# EAGLE library part MK20DN512 (library MK20DN512)
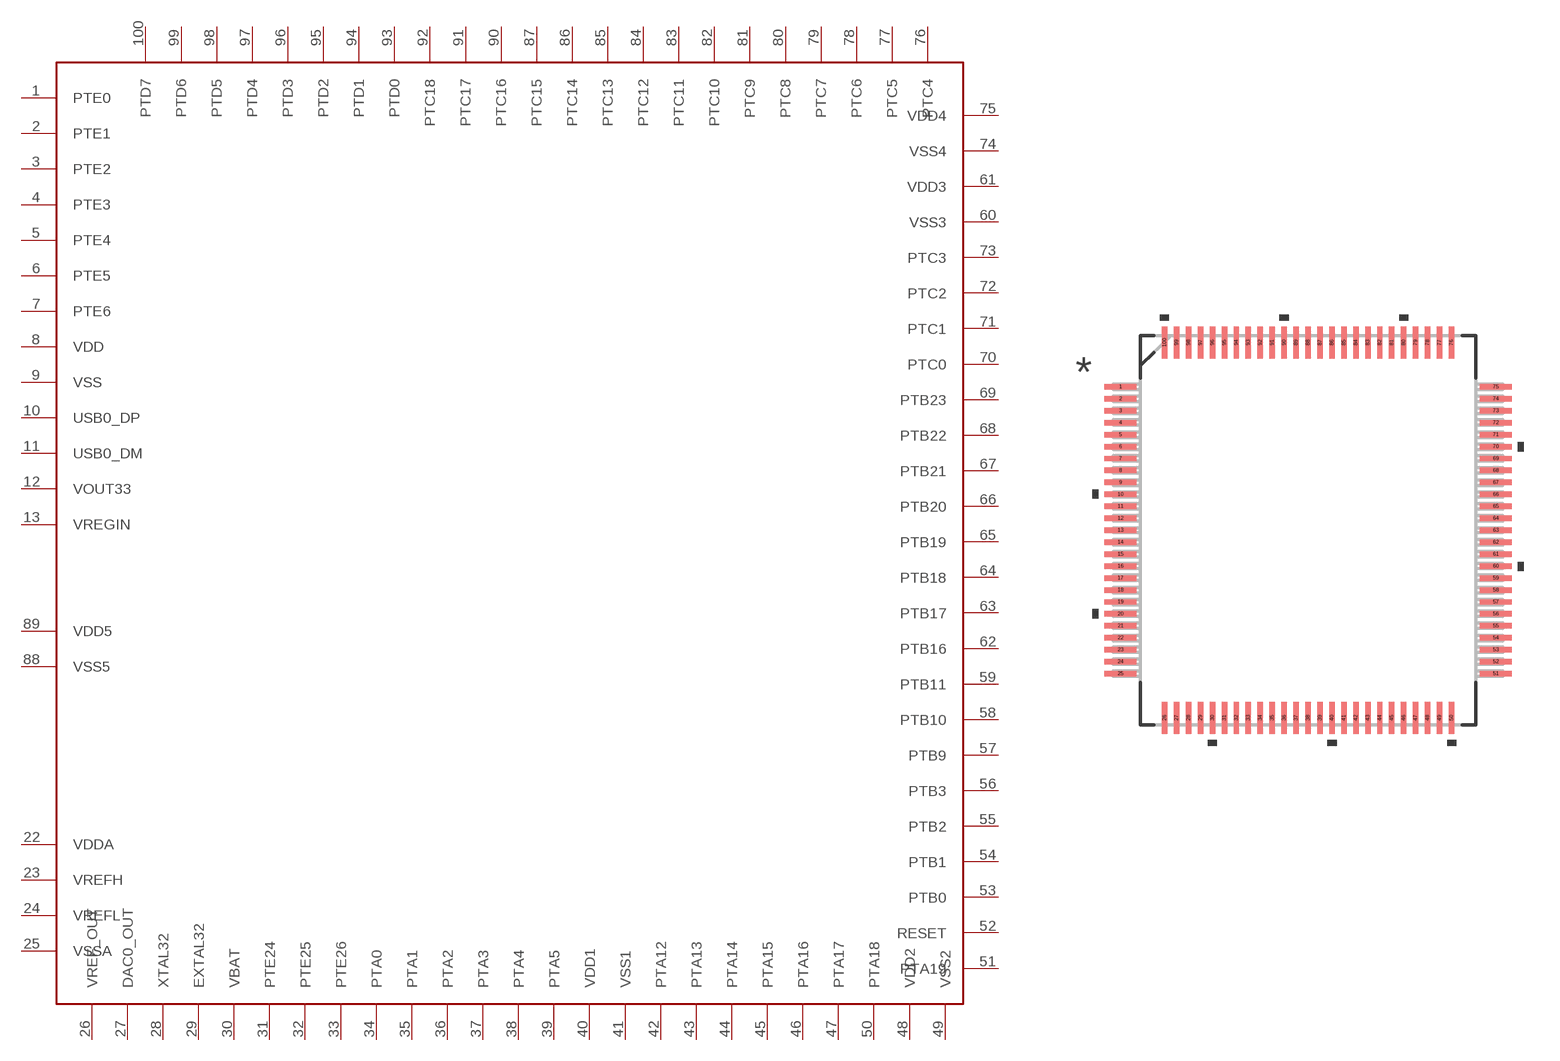
[diagram p0: symbol with the pads of LQFP-100; footprint LQFP-100]

Designator prefix -

## MK20DN512  [LQFP-100]
1  PTE0
2  PTE1
3  PTE2
4  PTE3
5  PTE4
6  PTE5
7  PTE6
8  VDD
9  VSS
10  USB0_DP
11  USB0_DM
12  VOUT33
13  VREGIN
22  VDDA
23  VREFH
24  VREFL
25  VSSA
26  VREF_OUT
27  DAC0_OUT
28  XTAL32
29  EXTAL32
30  VBAT
31  PTE24
32  PTE25
33  PTE26
34  PTA0
35  PTA1
36  PTA2
37  PTA3
38  PTA4
39  PTA5
40  VDD1
41  VSS1
42  PTA12
43  PTA13
44  PTA14
45  PTA15
46  PTA16
47  PTA17
48  VDD2
49  VSS2
50  PTA18
51  PTA19
52  RESET
53  PTB0
54  PTB1
55  PTB2
56  PTB3
57  PTB9
58  PTB10
59  PTB11
60  VSS3
61  VDD3
62  PTB16
63  PTB17
64  PTB18
65  PTB19
66  PTB20
67  PTB21
68  PTB22
69  PTB23
70  PTC0
71  PTC1
72  PTC2
73  PTC3
74  VSS4
75  VDD4
76  PTC4
77  PTC5
78  PTC6
79  PTC7
80  PTC8
81  PTC9
82  PTC10
83  PTC11
84  PTC12
85  PTC13
86  PTC14
87  PTC15
88  VSS5
89  VDD5
90  PTC16
91  PTC17
92  PTC18
93  PTD0
94  PTD1
95  PTD2
96  PTD3
97  PTD4
98  PTD5
99  PTD6
100  PTD7

## Footprint LQFP-100 (pad centres in mm)
smd 1.321 x 0.229: 1 -7.85,6; 2 -7.85,5.5; 3 -7.85,5; 4 -7.85,4.5; 5 -7.85,4; 6 -7.85,3.5; 7 -7.85,3; 8 -7.85,2.5; 9 -7.85,2; 10 -7.85,1.5; 11 -7.85,1; 12 -7.85,0.5; 13 -7.85,0; 14 -7.85,-0.5; 15 -7.85,-1; 16 -7.85,-1.5; 17 -7.85,-2; 18 -7.85,-2.5; 19 -7.85,-3; 20 -7.85,-3.5; 21 -7.85,-4; 22 -7.85,-4.5; 23 -7.85,-5; 24 -7.85,-5.5; 25 -7.85,-6; 51 7.85,-6; 52 7.85,-5.5; 53 7.85,-5; 54 7.85,-4.5; 55 7.85,-4; 56 7.85,-3.5; 57 7.85,-3; 58 7.85,-2.5; 59 7.85,-2; 60 7.85,-1.5; 61 7.85,-1; 62 7.85,-0.5; 63 7.85,0; 64 7.85,0.5; 65 7.85,1; 66 7.85,1.5; 67 7.85,2; 68 7.85,2.5; 69 7.85,3; 70 7.85,3.5; 71 7.85,4; 72 7.85,4.5; 73 7.85,5; 74 7.85,5.5; 75 7.85,6
smd 0.229 x 1.321: 26 -6,-7.85; 27 -5.5,-7.85; 28 -5,-7.85; 29 -4.5,-7.85; 30 -4,-7.85; 31 -3.5,-7.85; 32 -3,-7.85; 33 -2.5,-7.85; 34 -2,-7.85; 35 -1.5,-7.85; 36 -1,-7.85; 37 -0.5,-7.85; 38 0,-7.85; 39 0.5,-7.85; 40 1,-7.85; 41 1.5,-7.85; 42 2,-7.85; 43 2.5,-7.85; 44 3,-7.85; 45 3.5,-7.85; 46 4,-7.85; 47 4.5,-7.85; 48 5,-7.85; 49 5.5,-7.85; 50 6,-7.85; 76 6,7.85; 77 5.5,7.85; 78 5,7.85; 79 4.5,7.85; 80 4,7.85; 81 3.5,7.85; 82 3,7.85; 83 2.5,7.85; 84 2,7.85; 85 1.5,7.85; 86 1,7.85; 87 0.5,7.85; 88 0,7.85; 89 -0.5,7.85; 90 -1,7.85; 91 -1.5,7.85; 92 -2,7.85; 93 -2.5,7.85; 94 -3,7.85; 95 -3.5,7.85; 96 -4,7.85; 97 -4.5,7.85; 98 -5,7.85; 99 -5.5,7.85; 100 -6,7.85